# Altium footprint library WL-SWTC.PcbLib: 1 footprints
Each footprint in its own frame and in the unit in brackets; x right, y up, seen from the top. Pads: shape width x height; smd on the part's side, far side on the other; paste and mask are expansions set on the pad; w line width, h text height; cw(c..) or ccw(c..) is an arc to the next point about the centre after c.
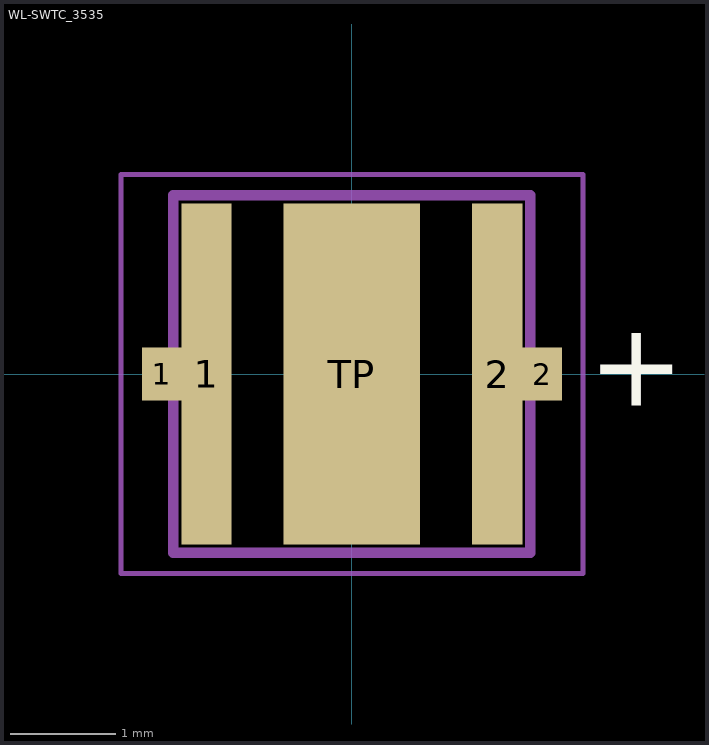
[diagram p0: the footprint, top view; thin cyan lines are the x and y axes]

## WL-SWTC_3535 [mm] "SMD White Top view Ceramic LED, body 3.4x3.4mm"
height 2.1
pads (5):
  rect 0.375x0.5 smd: 1(-1.813,0) 2(1.813,0)
  rect 0.48x3.25 smd: 1(-1.385,0) 2(1.385,0)
  rect 1.3x3.25 smd: TP(0,0)
Top Overlay:
  text "+" at 2.25,-0.3 h0.8
Top Designator:
  text ".Designator" at -3.999,-0.267 h0.8
Top Component Outline:
  lines w0.1: -1.7,-1.7 1.7,-1.7 1.7,1.7 -1.7,1.7 -1.7,-1.7
Top Courtyard:
  lines w0.05: -0.5,0 0.5,0 ; 0,-0.5 0,0.5 ; -2.2,-1.9 2.2,-1.9 2.2,1.9 -2.2,1.9 -2.2,-1.9
3D body "150353xS75400.stp": height 2.1, standoff 0, extent -1.7,-1.7 1.7,1.7